# EAGLE library part DAC8565IAPW (library halcyonmod_DigitalIC)
Quad Channel DAC
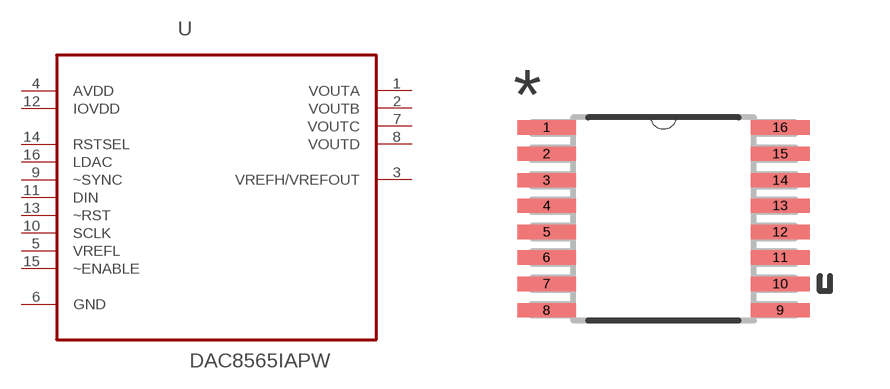
[diagram p8: symbol with the pads of SOP65P640X120-16N; footprint SOP65P640X120-16N]

Designator prefix U

## DAC8565IAPW (MPN: DAC8565IAPW; OC_FARNELL: -; OC_NEWARK: 65M0711; PACKAGE: TSSOP-16; SUPPLIER: Texas Instruments)  [SOP65P640X120-16N]
1  VOUTA  out
2  VOUTB  out
3  VREFH/VREFOUT
4  AVDD  pwr
5  VREFL  in
6  GND  pas
7  VOUTC  out
8  VOUTD  out
9  ~SYNC  in
10  SCLK  in
11  DIN  in
12  IOVDD  pwr
13  ~RST  in
14  RSTSEL  in
15  ~ENABLE  in
16  LDAC  in

## Footprint SOP65P640X120-16N (pad centres in mm)
smd 1.473 x 0.356: 1 -2.921,2.286; 2 -2.921,1.626; 3 -2.921,0.965; 4 -2.921,0.33; 5 -2.921,-0.33; 6 -2.921,-0.965; 7 -2.921,-1.626; 8 -2.921,-2.286; 9 2.921,-2.286; 10 2.921,-1.626; 11 2.921,-0.965; 12 2.921,-0.33; 13 2.921,0.33; 14 2.921,0.965; 15 2.921,1.626; 16 2.921,2.286